# Altium schematic symbol library 9x1(3.5mm).SchLib: 1 symbol
Pins are listed as number, name and electrical type; pins without a type are passive.

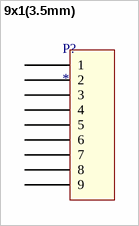
[diagram p0: symbol 9x1(3.5mm)]

## 9x1(3.5mm)
designator P?
footprint 9x1(3.5mm)
pins: 1, 2, 3, 4, 5, 6, 7, 8, 9